# Altium footprint library 3HDR_SMDRIGHT.PcbLib: 1 footprints
Each footprint in its own frame and in the unit in brackets; x right, y up, seen from the top. Pads: shape width x height; smd on the part's side, far side on the other; paste and mask are expansions set on the pad; w line width, h text height; cw(c..) or ccw(c..) is an arc to the next point about the centre after c.
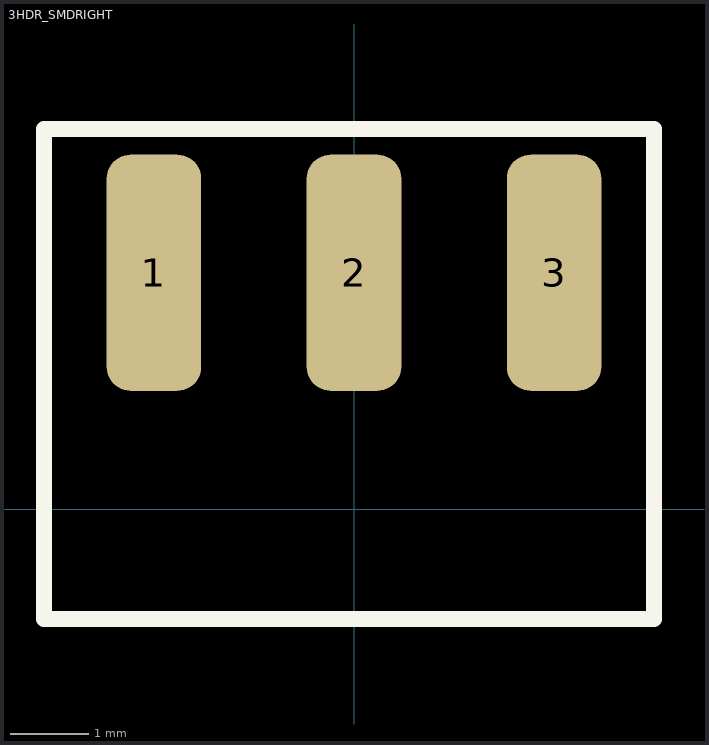
[diagram p0: the footprint, top view; thin cyan lines are the x and y axes]

## 3HDR_SMDRIGHT [mm]
pads (3):
  rrect50% 1.2x3 smd: 1(-2.54,3) 2(0,3) 3(2.54,3)
Top Overlay:
  lines w0.2: -3.937,-1.397 3.81,-1.397 3.81,4.826 -3.937,4.826 -3.937,-1.397
3D body: height 2.53, standoff 0.04, extent -3.81,-7.052 3.81,4.048